# Altium schematic symbol library Schematics.SchLib: 130 symbols
Pins are listed as number, name and electrical type; pins without a type are passive.

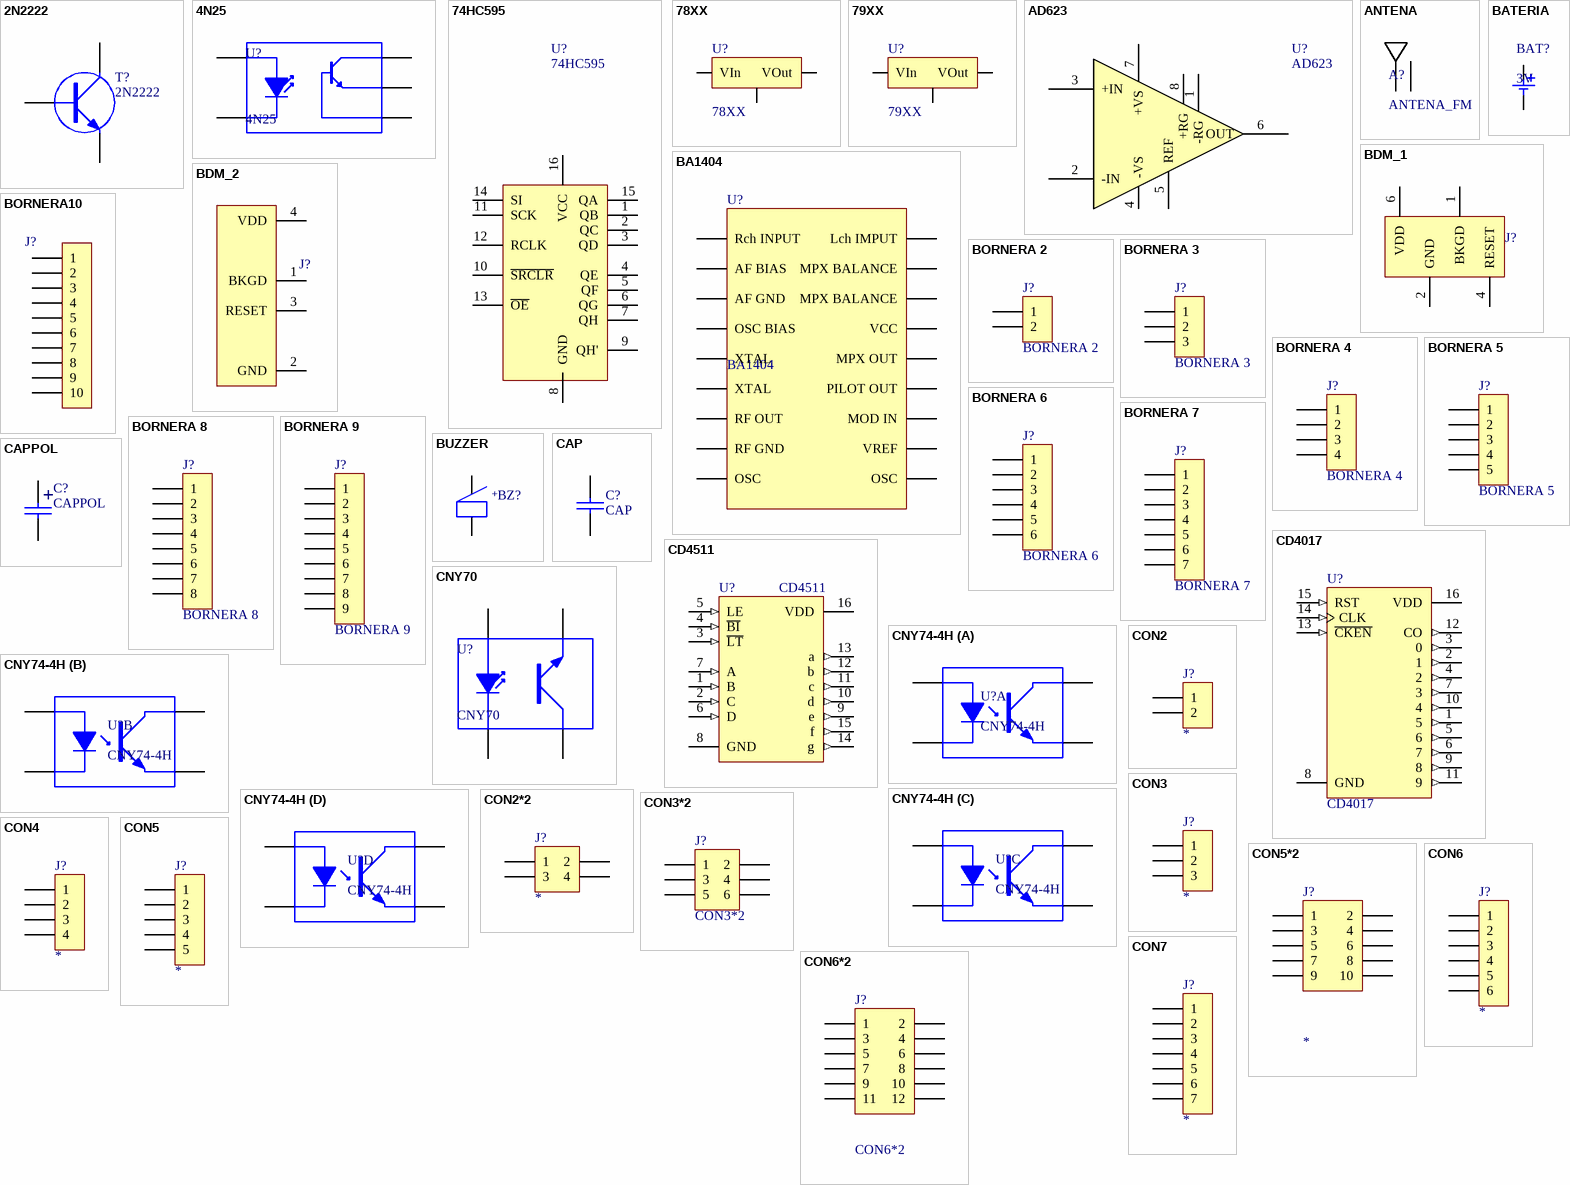
[diagram p0: symbols 2N2222 to CON7]

## 2N2222
designator T?
footprint TO92
footprint TO18
pins: 1 B, 2 E, 3 C

## 4N25
designator U?
footprint DIP6
pins: 1 A, 2 K, 4 E, 5 C, 6 B

## 74HC595
designator U?
footprint DIP16
footprint SOIC16N
pins: 1 QB, 2 QC, 3 QD, 4 QE, 5 QF, 6 QG, 7 QH, 8 GND, 9 QH', 10 ~{SRCLR}, 11 SCK, 12 RCLK, 13 ~{OE}, 14 SI, 15 QA, 16 VCC

## 78XX
designator U?
REGULDOR POSITIVO
footprint TO-220 H
footprint TO-220 V
footprint TO92
footprint TO-220 H - DISIPADOR
pins: 1 VIn, 2 GND, 3 VOut

## 79XX
designator U?
REGULADOR NEGATIVO
footprint TO-220 H
footprint TO-220 V
footprint TO-220 H - DISIPADOR
footprint TO92
pins: 1 GND, 2 VIn, 3 VOut

## AD623
designator U?
IC AMP INST R-R LP 8DIP
footprint DIP8
footprint SOIC8
pins: 1 -RG, 2 -IN, 3 +IN, 4 -VS, 5 REF, 6 OUT, 7 +VS, 8 +RG

## ANTENA
designator A?, comment ANTENA_FM
footprint ANTENA_FM (Footprint not found)
pins: 1, 2

## BA1404
designator U?
FM STEREO TRANSMITTERS
footprint DIP18
pins: 1 Rch INPUT, 2 AF BIAS, 3 AF GND, 4 OSC BIAS, 5 XTAL, 6 XTAL, 7 RF OUT, 8 RF GND, 9 OSC, 10 OSC, 11 VREF, 12 MOD IN, 13 PILOT OUT, 14 MPX OUT, 15 VCC, 16 MPX BALANCE, 17 MPX BALANCE, 18 Lch IMPUT

## BATERIA
designator BAT?, comment 3V
BATERIA
footprint CR2032 (Footprint not found)
pins: 1, 2

## BDM_1
designator J?, comment BDM  (value not drawn)
TIRA DE PINES 2x3
footprint SIP3*2
pins: 1 BKGD, 2 GND, 4 RESET, 6 VDD

## BDM_2
designator J?  (value not drawn)
footprint SIP4
pins: 1 BKGD, 2 GND, 3 RESET, 4 VDD

## BORNERA10
designator J?  (value not drawn)
footprint BORNERA10
pins: 1, 2, 3, 4, 5, 6, 7, 8, 9, 10

## BORNERA 2
designator J?
footprint BORNERA2 (Bornera con Tornillos 5mm separación)
pins: 1, 2

## BORNERA 3
designator J?
footprint BORNERA3 (Bornera con Tornillos 5mm separación)
pins: 1, 2, 3

## BORNERA 4
designator J?
footprint BORNERA4 (Bornera con Tornillos 5mm separación)
pins: 1, 2, 3, 4

## BORNERA 5
designator J?
footprint BORNERA5 (Bornera con Tornillos 5mm separación)
pins: 1, 2, 3, 4, 5

## BORNERA 6
designator J?
footprint BORNERA6 (Bornera con Tornillos 5mm separación)
pins: 1, 2, 3, 4, 5, 6

## BORNERA 7
designator J?
footprint BORNERA7 (Bornera con Tornillos 5mm separación)
pins: 1, 2, 3, 4, 5, 6, 7

## BORNERA 8
designator J?
footprint BORNERA8 (Bornera con Tornillos 5mm separación)
pins: 1, 2, 3, 4, 5, 6, 7, 8

## BORNERA 9
designator J?
footprint BORNERA9 (Bornera con Tornillos 5mm separación)
pins: 1, 2, 3, 4, 5, 6, 7, 8, 9

## BUZZER
designator BZ?
footprint BUZZER 12MM
pins: 1, 2
text: +

## CAP
designator C?
footprint 0805 (Pasivo 0805)
footprint 1206 (Pasivo 1206)
footprint 0603 (Footprint not found)
footprint CAP200
footprint CAP100
pins: 1, 2

## CAPPOL
designator C?
footprint CAP100RP
footprint CAP200RP
footprint CAP100RP2 (Footprint not found)
footprint CAP200RP2 (Body Diameter 12.5mm)
footprint CAP300RP
pins: 1, 2
text: +

## CD4017
designator U?
Decade Counter/Divider with 10 Decoded Outputs
footprint DIP16
pins: 1 5 (out), 2 1 (out), 3 0 (out), 4 2 (out), 5 6 (out), 6 7 (out), 7 3 (out), 8 GND (power), 9 8 (out), 10 4 (out), 11 9 (out), 12 CO (out), 13 ~{CKEN} (in), 14 CLK (in), 15 RST (in), 16 VDD (power)

## CD4511
designator U?
BCD to 7 SEGMENTOS
footprint DIP16
pins: 1 B (in), 2 C (in), 3 ~{LT} (in), 4 ~{BI} (in), 5 LE (in), 6 D (in), 7 A (in), 8 GND (power), 9 e (out), 10 d (out), 11 c (out), 12 b (out), 13 a (out), 14 g (out), 15 f (out), 16 VDD (power)

## CNY70
designator U?
Reflective Optical Sensor with Transistor Output
footprint CNY70
pins: A, C, E, K

## CNY74-4H
designator U?
footprint DIP16
part A pins: 1 A, 2 K, 15 C, 16 E
part B pins: 3 K, 4 A, 13 E, 14 C
part C pins: 5 A, 6 K, 11 C, 12 E
part D pins: 7 K, 8 A, 9 E, 10 C

## CON2
designator J?
footprint SIP2
footprint SIP2 90
pins: 1, 2

## CON2*2
designator J?
footprint SIP2*2
pins: 1, 2, 3, 4

## CON3
designator J?
footprint SIP3
footprint SIP3 90
pins: 1, 2, 3

## CON3*2
designator J?
footprint SIP3*2 (Footprint not found)
pins: 1, 2, 3, 4, 5, 6

## CON4
designator J?
footprint SIP4
footprint SIP4 90
pins: 1, 2, 3, 4

## CON5
designator J?
footprint SIP5
footprint SIP5 90
pins: 1, 2, 3, 4, 5

## CON5*2
designator J?
footprint SIP5*2
pins: 1, 2, 3, 4, 5, 6, 7, 8, 9, 10

## CON6
designator J?
footprint SIP6
footprint SIP6 90
pins: 1, 2, 3, 4, 5, 6

## CON6*2
designator J?
footprint SIP6*2
pins: 1, 2, 3, 4, 5, 6, 7, 8, 9, 10, 11, 12

## CON7
designator J?
footprint SIP7
footprint SIP7 90
pins: 1, 2, 3, 4, 5, 6, 7

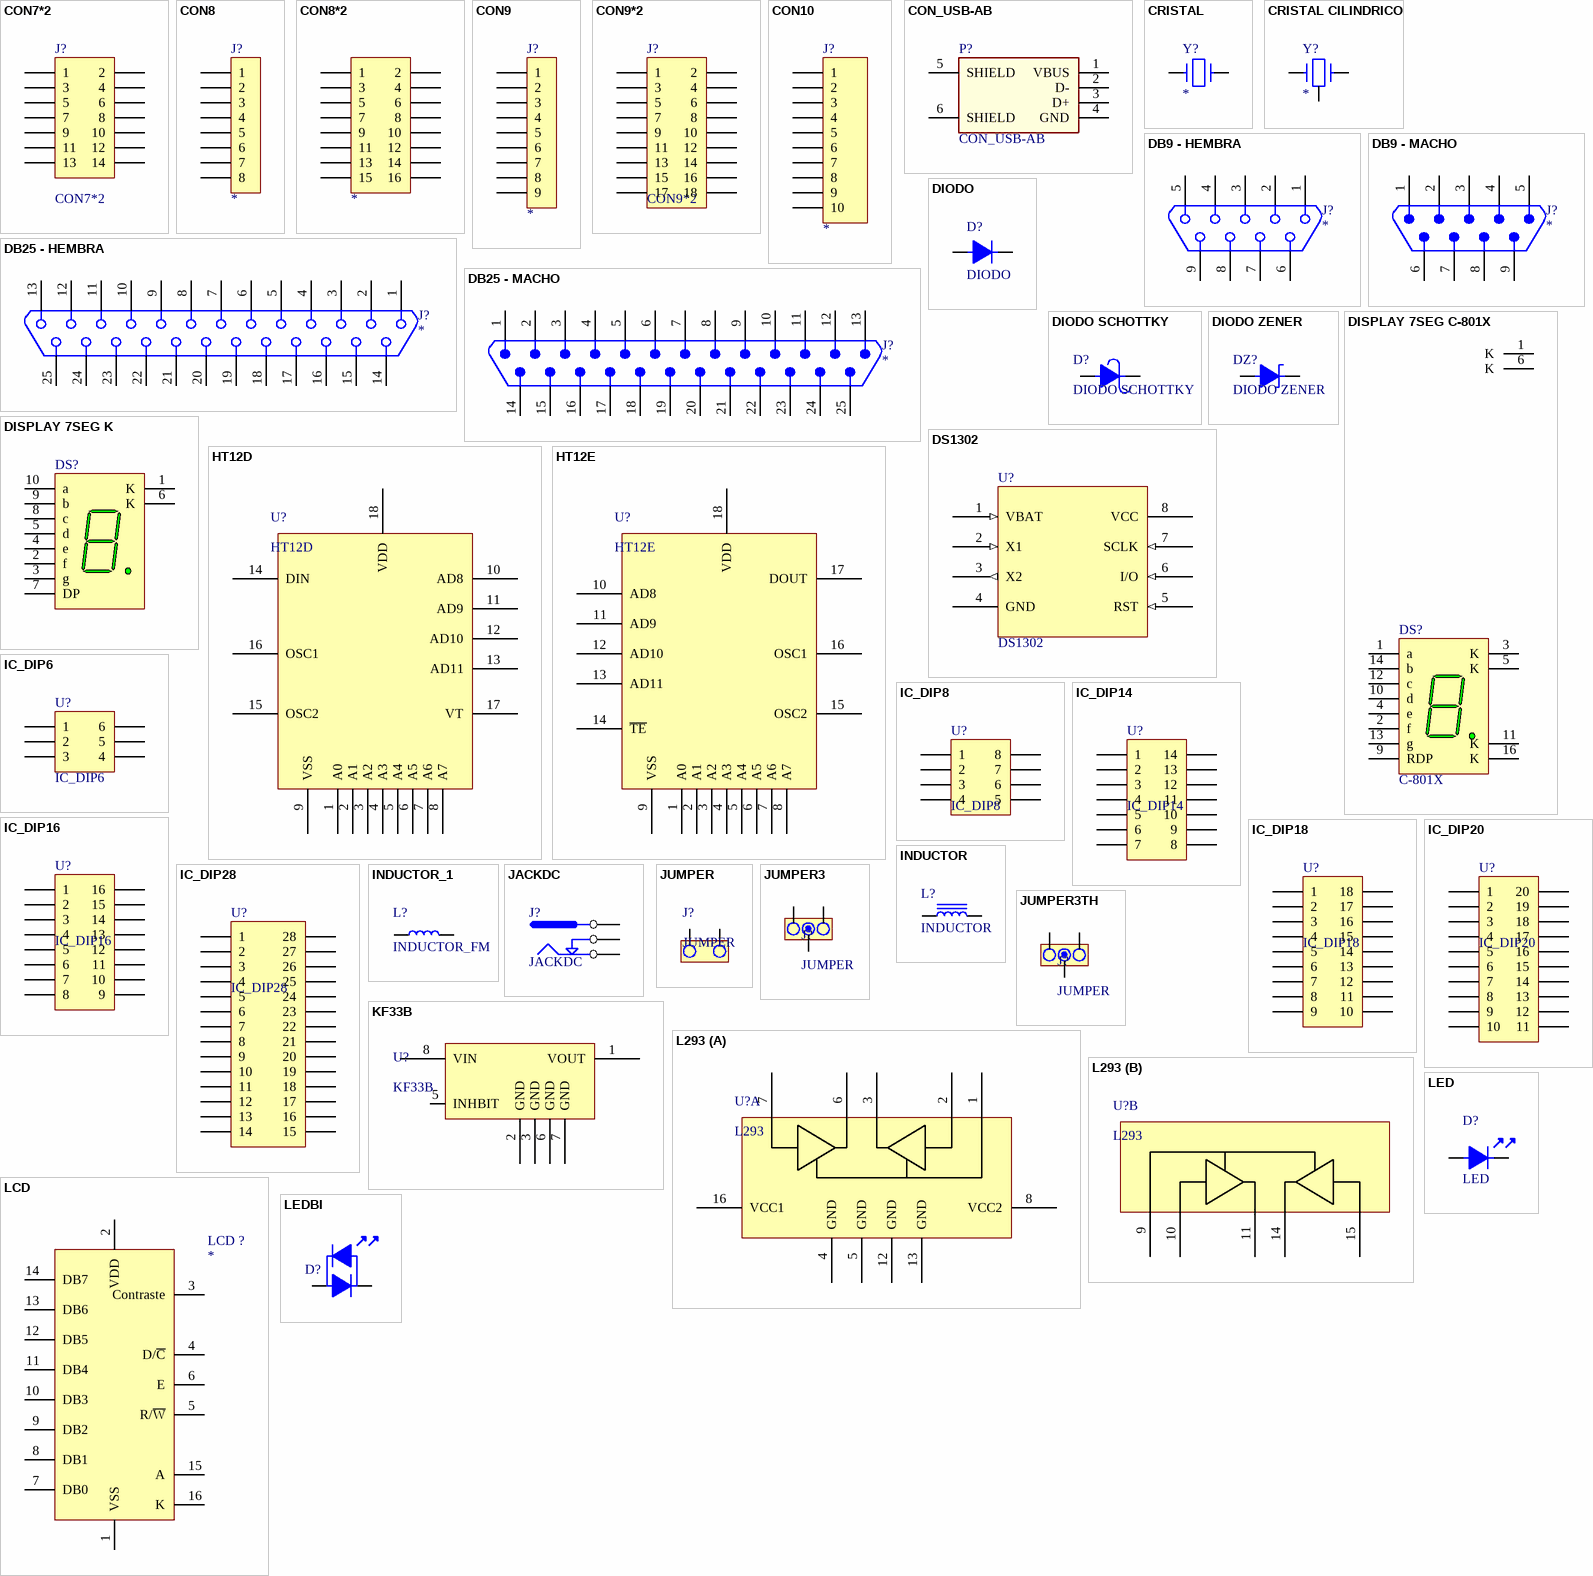
[diagram p1: symbols CON7*2 to LEDBI]

## CON7*2
designator J?
footprint SIP7*2
pins: 1, 2, 3, 4, 5, 6, 7, 8, 9, 10, 11, 12, 13, 14

## CON8
designator J?
footprint SIP8
footprint SIP8 90
pins: 1, 2, 3, 4, 5, 6, 7, 8

## CON8*2
designator ?
footprint SIP8*2
pins: 1, 2, 3, 4, 5, 6, 7, 8, 9, 10, 11, 12, 13, 14, 15, 16

## CON9
designator J?
footprint SIP9
footprint SIP9 90
pins: 1, 2, 3, 4, 5, 6, 7, 8, 9

## CON9*2
designator J?
footprint SIP9*2
pins: 1, 2, 3, 4, 5, 6, 7, 8, 9, 10, 11, 12, 13, 14, 15, 16, 17, 18

## CON10
designator J?
footprint SIP10
footprint SIP10 90
pins: 1, 2, 3, 4, 5, 6, 7, 8, 9, 10

## CON_USB-AB
designator P?
CONN RCPT USB TYPE B R/A PCB; Digikey: 609-1039-ND
footprint USB-BCH
pins: 1 VBUS, 2 D-, 3 D+, 4 GND, 5 SHIELD, 6 SHIELD

## CRISTAL
designator Y?
footprint CRISTAL PERFIL
pins: 1, 2 10

## CRISTAL CILINDRICO
designator Y?
footprint CRISTAL CILINDRICO (Footprint not found)
pins: 1, 2 10, 3 10

## DB9 - HEMBRA
designator J?
footprint DB9H-CI
pins: 1, 2, 3, 4, 5, 6, 7, 8, 9

## DB9 - MACHO
designator J?
footprint DB9M-CI
pins: 1, 2, 3, 4, 5, 6, 7, 8, 9

## DB25 - HEMBRA
designator J?
footprint DB25H-CI
pins: 1, 2, 3, 4, 5, 6, 7, 8, 9, 10, 11, 12, 13, 14, 15, 16, 17, 18, 19, 20, 21, 22, 23, 24, 25

## DB25 - MACHO
designator J?
footprint DB25M-CI
pins: 1, 2, 3, 4, 5, 6, 7, 8, 9, 10, 11, 12, 13, 14, 15, 16, 17, 18, 19, 20, 21, 22, 23, 24, 25

## DIODO
designator D?
footprint SMAK
footprint 1206K
footprint DO41
footprint SMBK
footprint SMCK
pins: 1, 2

## DIODO SCHOTTKY
designator D?
footprint SMAK
footprint SMCK
footprint DO41
footprint SMBK
pins: 1, 2

## DIODO ZENER
designator DZ?
footprint SOT23
footprint DO41
pins: 1, 2

## DISPLAY 7SEG C-801X
designator DS?, comment C-801X
DISPLAY 7 SEGMENTOS CATODO COMUN
footprint C-801X (SINGLE DIGIT DISPLAY PARA LIGTH)
pins: 1 a "Anode", 1 K "Cathode", 2 f "Anode", 3 K "Cathode", 4 e "Anode", 5 K "Cathode", 6 K "Cathode", 9 RDP "Anode", 10 d "Anode", 11 K "Cathode", 12 c "Anode", 13 g "Anode", 14 b "Anode", 16 K "Cathode"

## DISPLAY 7SEG K
designator DS?
Display 7 Segmentos Catodo Común
footprint DISPLAY_LED_0.3" (TOS-3104AG-B)
pins: 1 K "Cathode", 2 f "Anode", 3 g "Anode", 4 e "Anode", 5 d "Anode", 6 K "Cathode", 7 DP "Anode", 8 c "Anode", 9 b "Anode", 10 a "Anode"

## DS1302
designator U?
IC TIMEKEEPER T-CHARGE 8-DIP
footprint DIP8
footprint SO8
pins: 1 VBAT (in), 2 X1 (in), 3 X2 (out), 4 GND (power), 5 RST (in), 6 I/O (in), 7 SCLK (in), 8 VCC (power)

## HT12D
designator U?
footprint DIP18
pins: 1 A0, 2 A1, 3 A2, 4 A3, 5 A4, 6 A5, 7 A6, 8 A7, 9 VSS, 10 AD8, 11 AD9, 12 AD10, 13 AD11, 14 DIN, 15 OSC2, 16 OSC1, 17 VT, 18 VDD

## HT12E
designator U?
2^12  Series of Encoders
footprint DIP18
pins: 1 A0, 2 A1, 3 A2, 4 A3, 5 A4, 6 A5, 7 A6, 8 A7, 9 VSS, 10 AD8, 11 AD9, 12 AD10, 13 AD11, 14 ~{TE}, 15 OSC2, 16 OSC1, 17 DOUT, 18 VDD

## IC_DIP6
designator U?
footprint DIP6
pins: 1, 2, 3, 4, 5, 6

## IC_DIP8
designator U?
footprint DIP8
pins: 1, 2, 3, 4, 5, 6, 7, 8

## IC_DIP14
designator U?
footprint DIP14
pins: 1, 2, 3, 4, 5, 6, 7, 8, 9, 10, 11, 12, 13, 14

## IC_DIP16
designator U?
footprint DIP16
pins: 1, 2, 3, 4, 5, 6, 7, 8, 9, 10, 11, 12, 13, 14, 15, 16

## IC_DIP18
designator U?
footprint DIP18
pins: 1, 2, 3, 4, 5, 6, 7, 8, 9, 10, 11, 12, 13, 14, 15, 16, 17, 18

## IC_DIP20
designator U?
footprint DIP20
pins: 1, 2, 3, 4, 5, 6, 7, 8, 9, 10, 11, 12, 13, 14, 15, 16, 17, 18, 19, 20

## IC_DIP28
designator U?
footprint DIP28
pins: 1, 2, 3, 4, 5, 6, 7, 8, 9, 10, 11, 12, 13, 14, 15, 16, 17, 18, 19, 20, 21, 22, 23, 24, 25, 26, 27, 28

## INDUCTOR
designator L?
footprint WE-PD SERIES (POWER-CHOKE WE-PD)
footprint DO3316
footprint L_IHLP (Footprint para IHLP2525CZER3R3M11)
footprint SRR1210
pins: 1, 2

## INDUCTOR_1
designator L?, comment INDUCTOR_FM
footprint INDUCTOR_FM
pins: 1, 2

## JACKDC
designator J?
footprint JACKDC
pins: 1, 2, 3

## JUMPER
designator J?
footprint 0805 (Pasivo 0805)
footprint JUMPER2
pins: 1, 2

## JUMPER3
designator J?, comment JUMPER
footprint JUMPER3
pins: 1, 2, 3

## JUMPER3TH
designator J?, comment JUMPER
TIRA DE PINES 1x3
footprint JUMPER3TH
pins: 1, 2, 3

## KF33B
designator U?
footprint SO8 (Footprint not found)
pins: 1 VOUT, 2 GND, 3 GND, 5 INHBIT, 6 GND, 7 GND, 8 VIN

## L293
designator U?
QUADRUPLE HALF-H DRIVERS
footprint DIP16
part A pins: 1 1,2EN (power), 2 1A (power), 3 1Y (power), 4 GND (power), 5 GND (power), 6 2Y (power), 7 2A (power), 8 VCC2 (power), 12 GND (power), 13 GND (power), 16 VCC1 (power)
part B pins: 9 3,4EN (power), 10 3A (power), 11 3Y (power), 14 4Y (power), 15 4A (power)

## LCD
designator LCD ?
footprint IDC16
pins: 1 VSS, 2 VDD, 3 Contraste, 4 D/~{C}, 5 R/~{W}, 6 E, 7 DB0, 8 DB1, 9 DB2, 10 DB3, 11 DB4, 12 DB5, 13 DB6, 14 DB7, 15 A, 16 K

## LED
designator D?
footprint 0805 (Chip Resistor, 2-Leads, Body 0,8"x0,5" - 2,0x1,3mm, IPC High Density)
footprint LED3
footprint LED5
pins: 1, 2

## LEDBI
designator D?  (value not drawn)
Led BiColor 3mm - 2 Pines
footprint LED3
pins: 1, 2

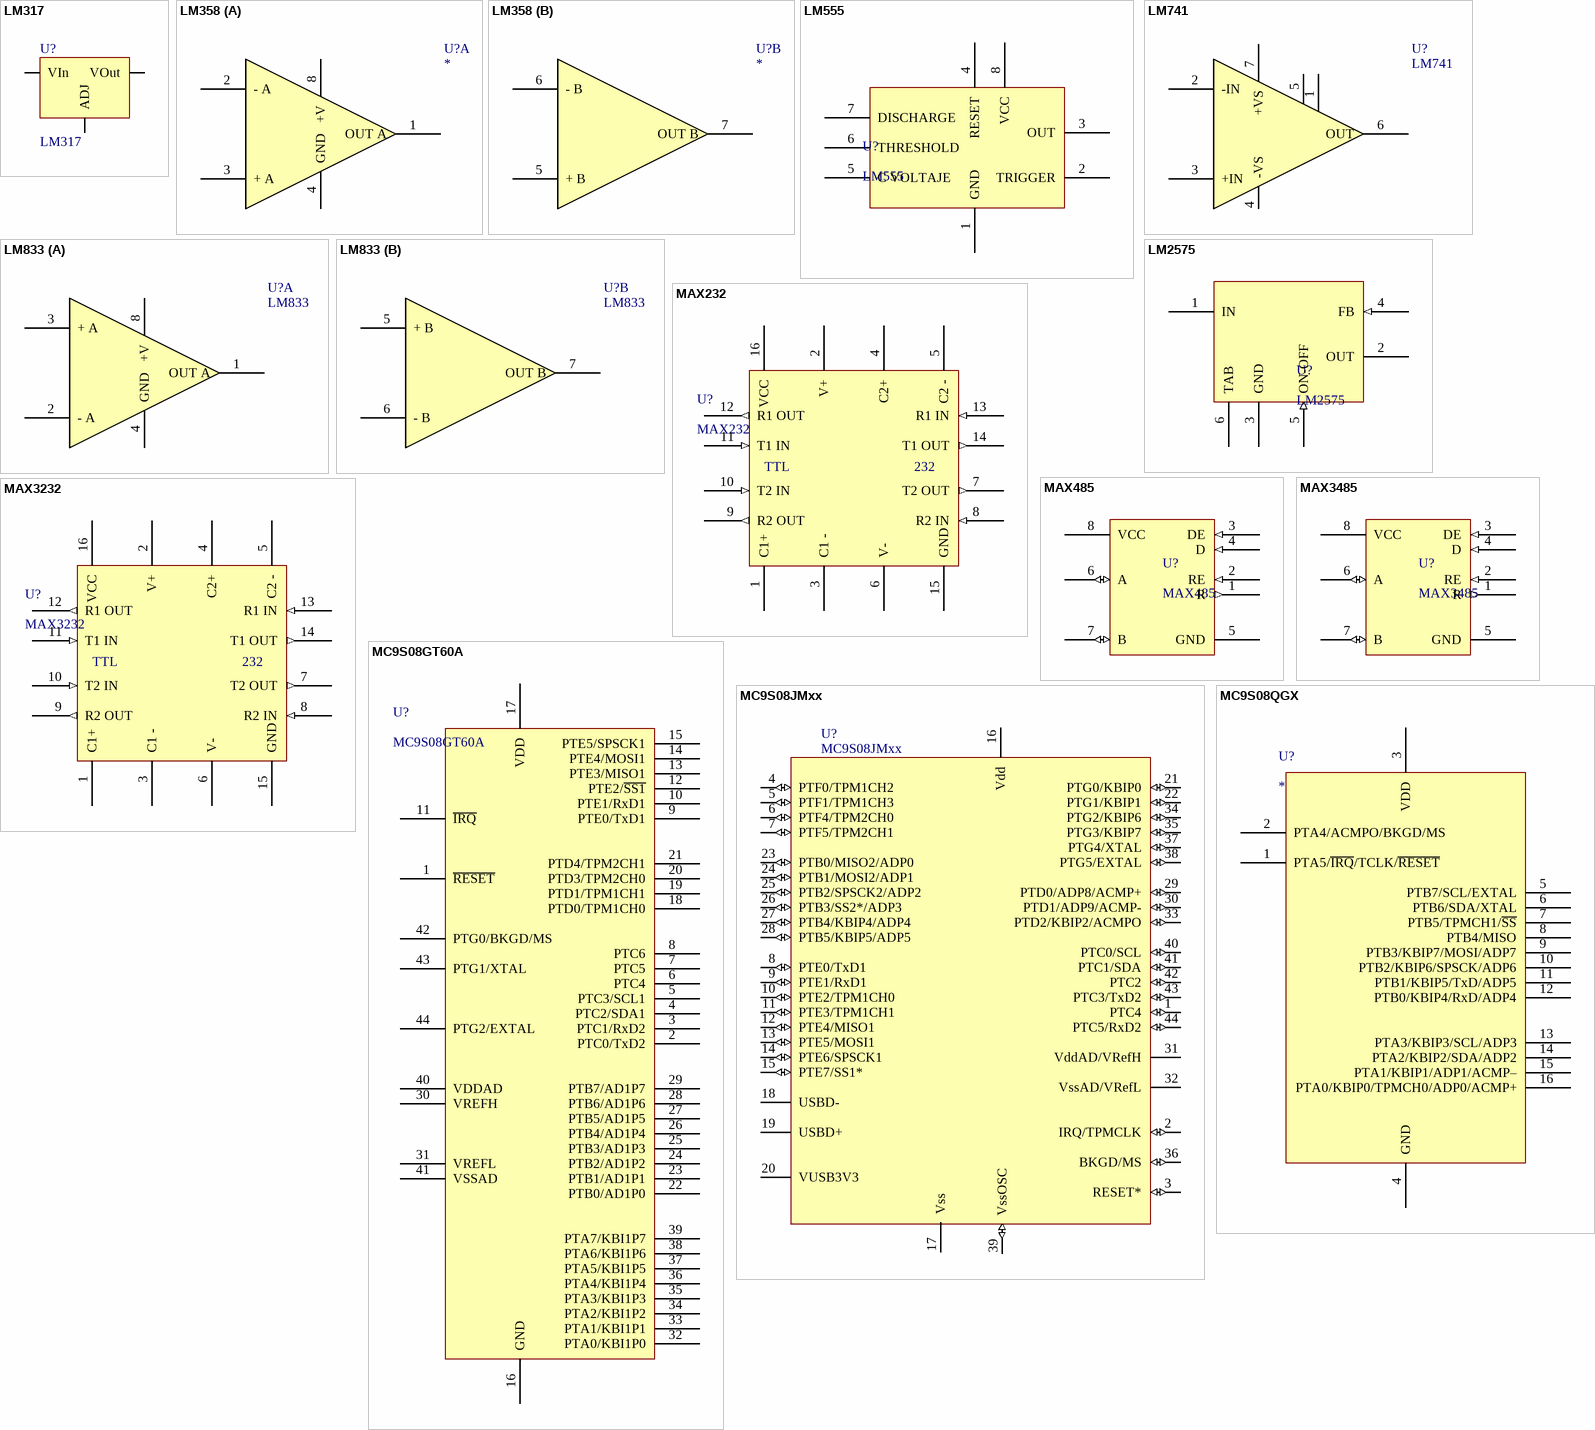
[diagram p2: symbols LM317 to MC9S08QGX]

## LM317
designator U?
IC REG ADJ 1.5A 3 TERM TO-220
footprint TO-220 H
footprint TO-220 V
footprint TO-220 H - DISIPADOR
pins: 1 ADJ, 2 VOut, 3 VIn

## LM358
designator U?
footprint DIP8
part A pins: 1 OUT A, 2 - A, 3 + A, 4 GND, 8 +V
part B pins: 5 + B, 6 - B, 7 OUT B

## LM555
designator U?
Timer
footprint SO8 (Footprint not found)
footprint DIP8
pins: 1 GND, 2 TRIGGER, 3 OUT, 4 RESET, 5 C VOLTAJE, 6 THRESHOLD, 7 DISCHARGE, 8 VCC

## LM741
designator U?
LM741 Operational Amplifier
footprint DIP8
pins: 1 -RG, 2 -IN, 3 +IN, 4 -VS, 5 +RG, 6 OUT, 7 +VS

## LM833
designator U?
Dual Audio Operational Amplifier
footprint DIP8
part A pins: 1 OUT A, 2 - A, 3 + A, 4 GND, 8 +V
part B pins: 5 + B, 6 - B, 7 OUT B

## LM2575
designator U?
footprint TO263 (Footprint not found)
footprint TO-220_5 H
pins: 1 IN (power), 2 OUT (power), 3 GND (power), 4 FB (in), 5 ON-OFF (in), 6 TAB (power)

## MAX232
designator U?
IC TXRX RS232 1MBPS LP
footprint SOIC16N
footprint DIP16
pins: 1 C1+, 2 V+ (power), 3 C1 -, 4 C2+, 5 C2 -, 6 V- (power), 7 T2 OUT (out), 8 R2 IN (in), 9 R2 OUT (out), 10 T2 IN (in), 11 T1 IN (in), 12 R1 OUT (out), 13 R1 IN (in), 14 T1 OUT (out), 15 GND (power), 16 VCC (power)
text: TTL; 232

## MAX485
designator U?
IC TXRX 5V RS485/422 8 SOIC
footprint SO8 (Footprint not found)
pins: 1 R (out), 2 RE (in), 3 DE (in), 4 D (in), 5 GND (power), 6 A (io), 7 B (io), 8 VCC (power)

## MAX3232
designator U?
IC TXRX RS232 1MBPS LP 16-SOIC (3 V ~ 5.5 V); Part Number: MAX3232CSE
footprint SOIC16N
footprint DIP16
pins: 1 C1+, 2 V+ (power), 3 C1 -, 4 C2+, 5 C2 -, 6 V- (power), 7 T2 OUT (out), 8 R2 IN (in), 9 R2 OUT (out), 10 T2 IN (in), 11 T1 IN (in), 12 R1 OUT (out), 13 R1 IN (in), 14 T1 OUT (out), 15 GND (power), 16 VCC (power)
text: TTL; 232

## MAX3485
designator U?
IC TXRX 3.3V RS485/422 8 SOIC
footprint SO8 (Footprint not found)
pins: 1 R (out), 2 RE (in), 3 DE (in), 4 D (in), 5 GND (power), 6 A (io), 7 B (io), 8 VCC (power)

## MC9S08GT60A
designator U?
IC MCU 60K FLASH 4K RAM 44-QFP
footprint QFP44
pins: 1 ~{RESET}, 2 PTC0/TxD2, 3 PTC1/RxD2, 4 PTC2/SDA1, 5 PTC3/SCL1, 6 PTC4, 7 PTC5, 8 PTC6, 9 PTE0/TxD1, 10 PTE1/RxD1, 11 ~{IRQ}, 12 PTE2/~{SS1}, 13 PTE3/MISO1, 14 PTE4/MOSI1, 15 PTE5/SPSCK1, 16 GND, 17 VDD, 18 PTD0/TPM1CH0, 19 PTD1/TPM1CH1, 20 PTD3/TPM2CH0, 21 PTD4/TPM2CH1, 22 PTB0/AD1P0, 23 PTB1/AD1P1, 24 PTB2/AD1P2, 25 PTB3/AD1P3, 26 PTB4/AD1P4, 27 PTB5/AD1P5, 28 PTB6/AD1P6, 29 PTB7/AD1P7, 30 VREFH, 31 VREFL, 32 PTA0/KBI1P0, 33 PTA1/KBI1P1, 34 PTA2/KBI1P2, 35 PTA3/KBI1P3, 36 PTA4/KBI1P4, 37 PTA5/KBI1P5, 38 PTA6/KBI1P6, 39 PTA7/KBI1P7, 40 VDDAD, 41 VSSAD, 42 PTG0/BKGD/MS, 43 PTG1/XTAL, 44 PTG2/EXTAL

## MC9S08JMxx
designator U?
IC MCU 8BIT 60K FLASH 44-LQFP; Digikey: MC9S08JM60CLD-ND
footprint QFP44
pins: 1 PTC4 (io), 2 IRQ/TPMCLK (io), 3 RESET* (io), 4 PTF0/TPM1CH2 (io), 5 PTF1/TPM1CH3 (io), 6 PTF4/TPM2CH0 (io), 7 PTF5/TPM2CH1 (io), 8 PTE0/TxD1 (io), 9 PTE1/RxD1 (io), 10 PTE2/TPM1CH0 (io), 11 PTE3/TPM1CH1 (io), 12 PTE4/MISO1 (io), 13 PTE5/MOSI1 (io), 14 PTE6/SPSCK1 (io), 15 PTE7/SS1* (io), 16 Vdd (power), 17 Vss (power), 18 USBD- (power), 19 USBD+ (power), 20 VUSB3V3 (power), 21 PTG0/KBIP0 (io), 22 PTG1/KBIP1 (io), 23 PTB0/MISO2/ADP0 (io), 24 PTB1/MOSI2/ADP1 (io), 25 PTB2/SPSCK2/ADP2 (io), 26 PTB3/SS2*/ADP3 (io), 27 PTB4/KBIP4/ADP4 (io), 28 PTB5/KBIP5/ADP5 (io), 29 PTD0/ADP8/ACMP+ (io), 30 PTD1/ADP9/ACMP- (io), 31 VddAD/VRefH (power), 32 VssAD/VRefL (power), 33 PTD2/KBIP2/ACMPO (io), 34 PTG2/KBIP6 (io), 35 PTG3/KBIP7 (io), 36 BKGD/MS (io), 37 PTG4/XTAL (io), 38 PTG5/EXTAL (io), 39 VssOSC (io), 40 PTC0/SCL (io), 41 PTC1/SDA (io), 42 PTC2 (io), 43 PTC3/TxD2 (io), 44 PTC5/RxD2 (io)

## MC9S08QGX
designator U?
footprint TSSOP16
footprint DIP16 (Footprint not found)
pins: 1 PTA5/~{IRQ}/TCLK/~{RESET}, 2 PTA4/ACMPO/BKGD/MS, 3 VDD, 4 GND, 5 PTB7/SCL/EXTAL, 6 PTB6/SDA/XTAL, 7 PTB5/TPMCH1/~{SS}, 8 PTB4/MISO, 9 PTB3/KBIP7/MOSI/ADP7, 10 PTB2/KBIP6/SPSCK/ADP6, 11 PTB1/KBIP5/TxD/ADP5, 12 PTB0/KBIP4/RxD/ADP4, 13 PTA3/KBIP3/SCL/ADP3, 14 PTA2/KBIP2/SDA/ADP2, 15 PTA1/KBIP1/ADP1/ACMP–, 16 PTA0/KBIP0/TPMCH0/ADP0/ACMP+

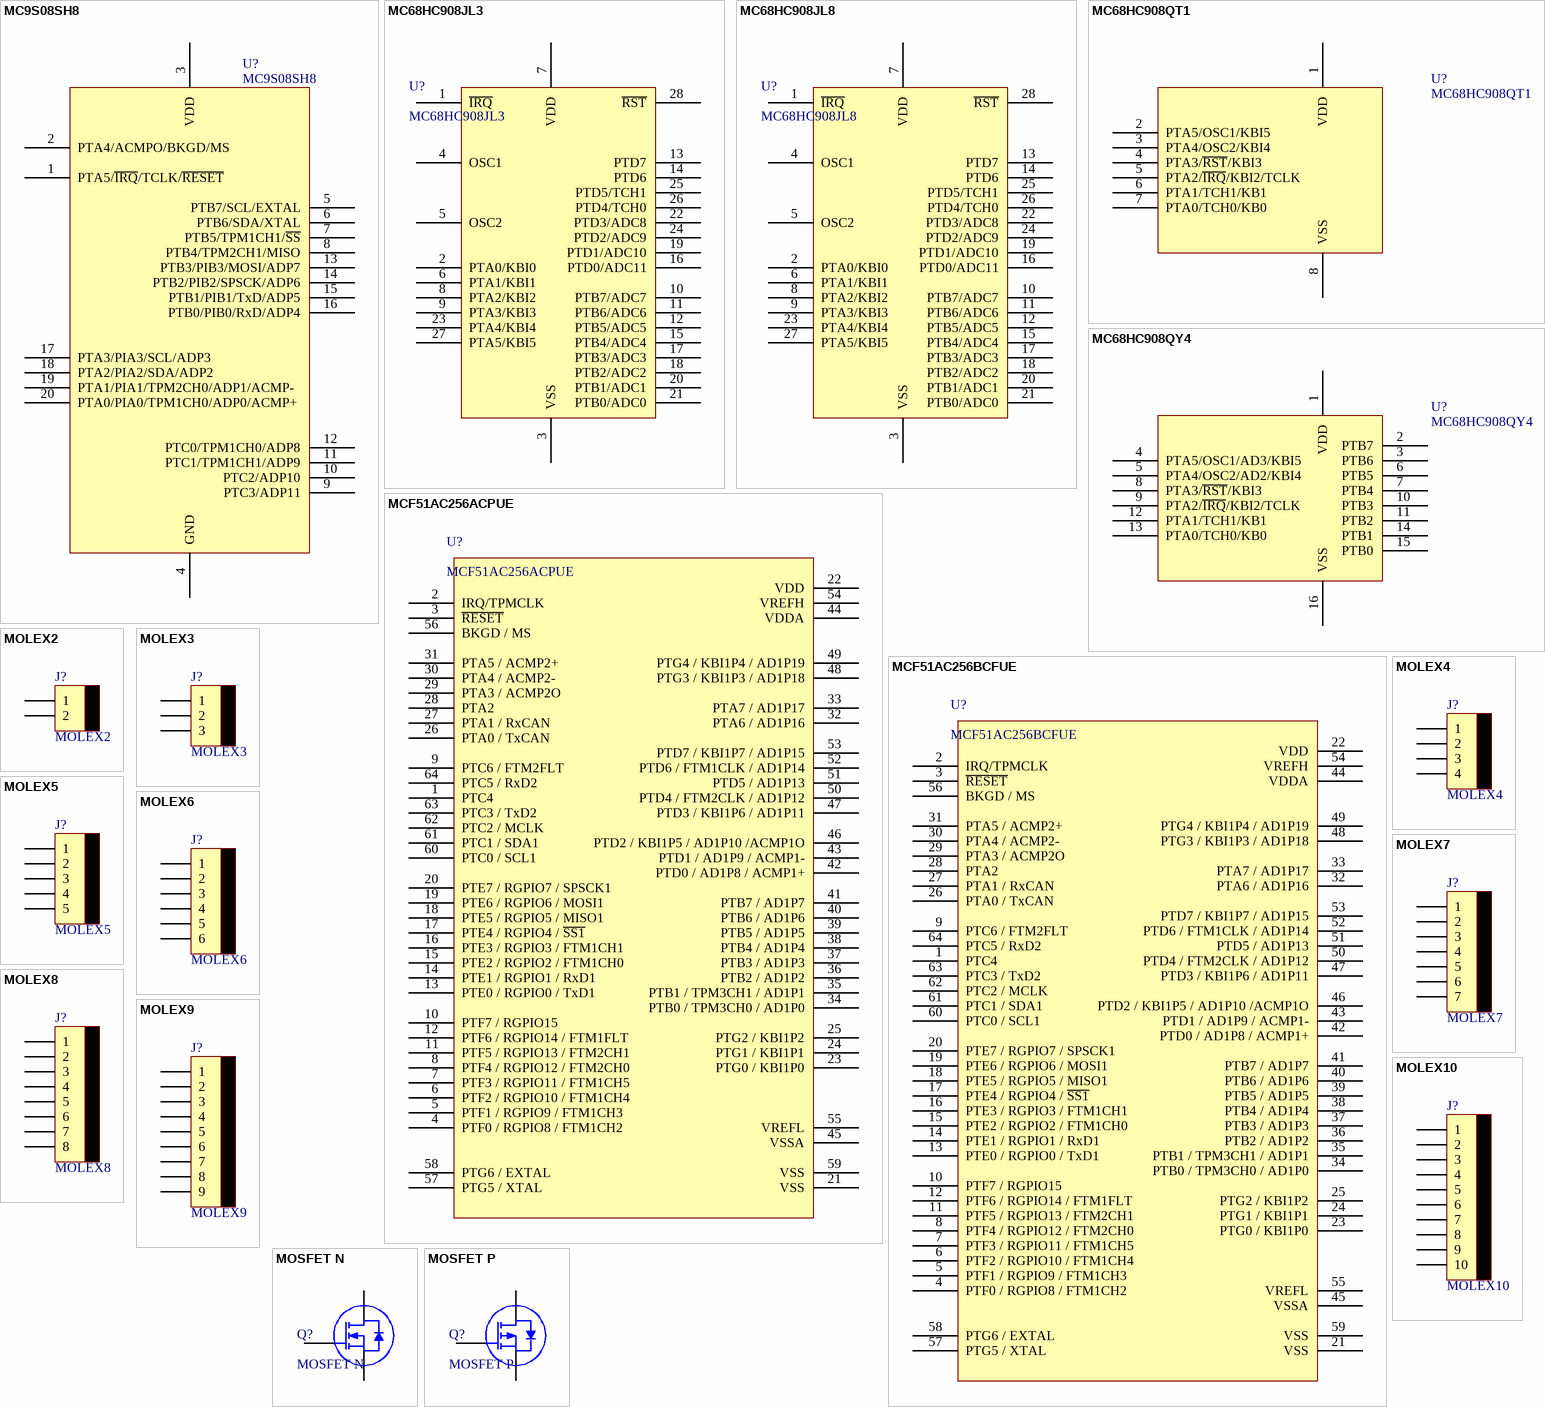
[diagram p3: symbols MC9S08SH8 to MOSFET P]

## MC9S08SH8
designator U?
IC MCU 8BIT 8K FLASH 20-DIP
footprint DIP20 (Footprint not found)
pins: 1 PTA5/~{IRQ}/TCLK/~{RESET}, 2 PTA4/ACMPO/BKGD/MS, 3 VDD, 4 GND, 5 PTB7/SCL/EXTAL, 6 PTB6/SDA/XTAL, 7 PTB5/TPM1CH1/~{SS}, 8 PTB4/TPM2CH1/MISO, 9 PTC3/ADP11, 10 PTC2/ADP10, 11 PTC1/TPM1CH1/ADP9, 12 PTC0/TPM1CH0/ADP8, 13 PTB3/PIB3/MOSI/ADP7, 14 PTB2/PIB2/SPSCK/ADP6, 15 PTB1/PIB1/TxD/ADP5, 16 PTB0/PIB0/RxD/ADP4, 17 PTA3/PIA3/SCL/ADP3, 18 PTA2/PIA2/SDA/ADP2, 19 PTA1/PIA1/TPM2CH0/ADP1/ACMP-, 20 PTA0/PIA0/TPM1CH0/ADP0/ACMP+

## MC68HC908JL3
designator U?
IC MCU 8MHZ 4K FLASH 28-DIP
footprint DIP28
pins: 1 ~{IRQ}, 2 PTA0/KBI0, 3 VSS, 4 OSC1, 5 OSC2, 6 PTA1/KBI1, 7 VDD, 8 PTA2/KBI2, 9 PTA3/KBI3, 10 PTB7/ADC7, 11 PTB6/ADC6, 12 PTB5/ADC5, 13 PTD7, 14 PTD6, 15 PTB4/ADC4, 16 PTD0/ADC11, 17 PTB3/ADC3, 18 PTB2/ADC2, 19 PTD1/ADC10, 20 PTB1/ADC1, 21 PTB0/ADC0, 22 PTD3/ADC8, 23 PTA4/KBI4, 24 PTD2/ADC9, 25 PTD5/TCH1, 26 PTD4/TCH0, 27 PTA5/KBI5, 28 ~{RST}

## MC68HC908JL8
designator U?
IC MCU 8K FLASH 8MHZ 28-DIP
footprint DIP28
pins: 1 ~{IRQ}, 2 PTA0/KBI0, 3 VSS, 4 OSC1, 5 OSC2, 6 PTA1/KBI1, 7 VDD, 8 PTA2/KBI2, 9 PTA3/KBI3, 10 PTB7/ADC7, 11 PTB6/ADC6, 12 PTB5/ADC5, 13 PTD7, 14 PTD6, 15 PTB4/ADC4, 16 PTD0/ADC11, 17 PTB3/ADC3, 18 PTB2/ADC2, 19 PTD1/ADC10, 20 PTB1/ADC1, 21 PTB0/ADC0, 22 PTD3/ADC8, 23 PTA4/KBI4, 24 PTD2/ADC9, 25 PTD5/TCH1, 26 PTD4/TCH0, 27 PTA5/KBI5, 28 ~{RST}

## MC68HC908QT1
designator U?
IC MCU 1.5K FLASH 8-DIP
footprint DIP8 (Footprint not found)
pins: 1 VDD, 2 PTA5/OSC1/KBI5, 3 PTA4/OSC2/KBI4, 4 PTA3/~{RST}/KBI3, 5 PTA2/~{IRQ}/KBI2/TCLK, 6 PTA1/TCH1/KB1, 7 PTA0/TCH0/KB0, 8 VSS

## MC68HC908QY4
designator U?
IC MCU 4K FLASH 8MHZ 16-DIP
footprint DIP16
pins: 1 VDD, 2 PTB7, 3 PTB6, 4 PTA5/OSC1/AD3/KBI5, 5 PTA4/OSC2/AD2/KBI4, 6 PTB5, 7 PTB4, 8 PTA3/~{RST}/KBI3, 9 PTA2/~{IRQ}/KBI2/TCLK, 10 PTB3, 11 PTB2, 12 PTA1/TCH1/KB1, 13 PTA0/TCH0/KB0, 14 PTB1, 15 PTB0, 16 VSS

## MCF51AC256ACPUE
designator U?
MCU 32BIT 256K FLASH CAN 64-LQFP
footprint LQFP64
pins: 1 PTC4, 2 IRQ/TPMCLK, 3 ~{RESET}, 4 PTF0 / RGPIO8 / FTM1CH2, 5 PTF1 / RGPIO9 / FTM1CH3, 6 PTF2 / RGPIO10 / FTM1CH4, 7 PTF3 / RGPIO11 / FTM1CH5, 8 PTF4 / RGPIO12 / FTM2CH0, 9 PTC6 / FTM2FLT, 10 PTF7 / RGPIO15, 11 PTF5 / RGPIO13 / FTM2CH1, 12 PTF6 / RGPIO14 / FTM1FLT, 13 PTE0 / RGPIO0 / TxD1, 14 PTE1 / RGPIO1 / RxD1, 15 PTE2 / RGPIO2 / FTM1CH0, 16 PTE3 / RGPIO3 / FTM1CH1, 17 PTE4 / RGPIO4 / ~{SS1}, 18 PTE5 / RGPIO5 / MISO1, 19 PTE6 / RGPIO6 / MOSI1, 20 PTE7 / RGPIO7 / SPSCK1, 21 VSS, 22 VDD, 23 PTG0 / KBI1P0, 24 PTG1 / KBI1P1, 25 PTG2 / KBI1P2, 26 PTA0 / TxCAN, 27 PTA1 / RxCAN, 28 PTA2, 29 PTA3 / ACMP2O, 30 PTA4 / ACMP2-, 31 PTA5 / ACMP2+, 32 PTA6 / AD1P16, 33 PTA7 / AD1P17, 34 PTB0 / TPM3CH0 / AD1P0, 35 PTB1 / TPM3CH1 / AD1P1, 36 PTB2 / AD1P2, 37 PTB3 / AD1P3, 38 PTB4 / AD1P4, 39 PTB5 / AD1P5, 40 PTB6 / AD1P6, 41 PTB7 / AD1P7, 42 PTD0 / AD1P8 / ACMP1+, 43 PTD1 / AD1P9 / ACMP1-, 44 VDDA, 45 VSSA, 46 PTD2 / KBI1P5 / AD1P10 /ACMP1O, 47 PTD3 / KBI1P6 / AD1P11, 48 PTG3 / KBI1P3 / AD1P18, 49 PTG4 / KBI1P4 / AD1P19, 50 PTD4 / FTM2CLK / AD1P12, 51 PTD5 / AD1P13, 52 PTD6 / FTM1CLK / AD1P14, 53 PTD7 / KBI1P7 / AD1P15, 54 VREFH, 55 VREFL, 56 BKGD / MS, 57 PTG5 / XTAL, 58 PTG6 / EXTAL, 59 VSS, 60 PTC0 / SCL1, 61 PTC1 / SDA1, 62 PTC2 / MCLK, 63 PTC3 / TxD2, 64 PTC5 / RxD2

## MCF51AC256BCFUE
designator U?
MCU 32BIT 256K FLASH CAN 64-QFP
footprint QFP64
pins: 1 PTC4, 2 IRQ/TPMCLK, 3 ~{RESET}, 4 PTF0 / RGPIO8 / FTM1CH2, 5 PTF1 / RGPIO9 / FTM1CH3, 6 PTF2 / RGPIO10 / FTM1CH4, 7 PTF3 / RGPIO11 / FTM1CH5, 8 PTF4 / RGPIO12 / FTM2CH0, 9 PTC6 / FTM2FLT, 10 PTF7 / RGPIO15, 11 PTF5 / RGPIO13 / FTM2CH1, 12 PTF6 / RGPIO14 / FTM1FLT, 13 PTE0 / RGPIO0 / TxD1, 14 PTE1 / RGPIO1 / RxD1, 15 PTE2 / RGPIO2 / FTM1CH0, 16 PTE3 / RGPIO3 / FTM1CH1, 17 PTE4 / RGPIO4 / ~{SS1}, 18 PTE5 / RGPIO5 / MISO1, 19 PTE6 / RGPIO6 / MOSI1, 20 PTE7 / RGPIO7 / SPSCK1, 21 VSS, 22 VDD, 23 PTG0 / KBI1P0, 24 PTG1 / KBI1P1, 25 PTG2 / KBI1P2, 26 PTA0 / TxCAN, 27 PTA1 / RxCAN, 28 PTA2, 29 PTA3 / ACMP2O, 30 PTA4 / ACMP2-, 31 PTA5 / ACMP2+, 32 PTA6 / AD1P16, 33 PTA7 / AD1P17, 34 PTB0 / TPM3CH0 / AD1P0, 35 PTB1 / TPM3CH1 / AD1P1, 36 PTB2 / AD1P2, 37 PTB3 / AD1P3, 38 PTB4 / AD1P4, 39 PTB5 / AD1P5, 40 PTB6 / AD1P6, 41 PTB7 / AD1P7, 42 PTD0 / AD1P8 / ACMP1+, 43 PTD1 / AD1P9 / ACMP1-, 44 VDDA, 45 VSSA, 46 PTD2 / KBI1P5 / AD1P10 /ACMP1O, 47 PTD3 / KBI1P6 / AD1P11, 48 PTG3 / KBI1P3 / AD1P18, 49 PTG4 / KBI1P4 / AD1P19, 50 PTD4 / FTM2CLK / AD1P12, 51 PTD5 / AD1P13, 52 PTD6 / FTM1CLK / AD1P14, 53 PTD7 / KBI1P7 / AD1P15, 54 VREFH, 55 VREFL, 56 BKGD / MS, 57 PTG5 / XTAL, 58 PTG6 / EXTAL, 59 VSS, 60 PTC0 / SCL1, 61 PTC1 / SDA1, 62 PTC2 / MCLK, 63 PTC3 / TxD2, 64 PTC5 / RxD2

## MOLEX2
designator J?
footprint MOLEX2
pins: 1, 2

## MOLEX3
designator J?
footprint MOLEX3
pins: 1, 2, 3

## MOLEX4
designator J?
footprint MOLEX4
pins: 1, 2, 3, 4

## MOLEX5
designator J?
footprint MOLEX5
pins: 1, 2, 3, 4, 5

## MOLEX6
designator J?
footprint MOLEX6
pins: 1, 2, 3, 4, 5, 6

## MOLEX7
designator J?
footprint MOLEX7
pins: 1, 2, 3, 4, 5, 6, 7

## MOLEX8
designator J?
footprint MOLEX8
pins: 1, 2, 3, 4, 5, 6, 7, 8

## MOLEX9
designator J?
footprint MOLEX9
pins: 1, 2, 3, 4, 5, 6, 7, 8, 9

## MOLEX10
designator J?
footprint MOLEX10
pins: 1, 2, 3, 4, 5, 6, 7, 8, 9, 10

## MOSFET N
designator Q?
footprint SOT23
footprint TO-220 V
pins: 1 G, 2 D, 3 S

## MOSFET P
designator Q?
footprint SOT23
footprint TO-220 V
pins: 1 G, 2 D, 3 S

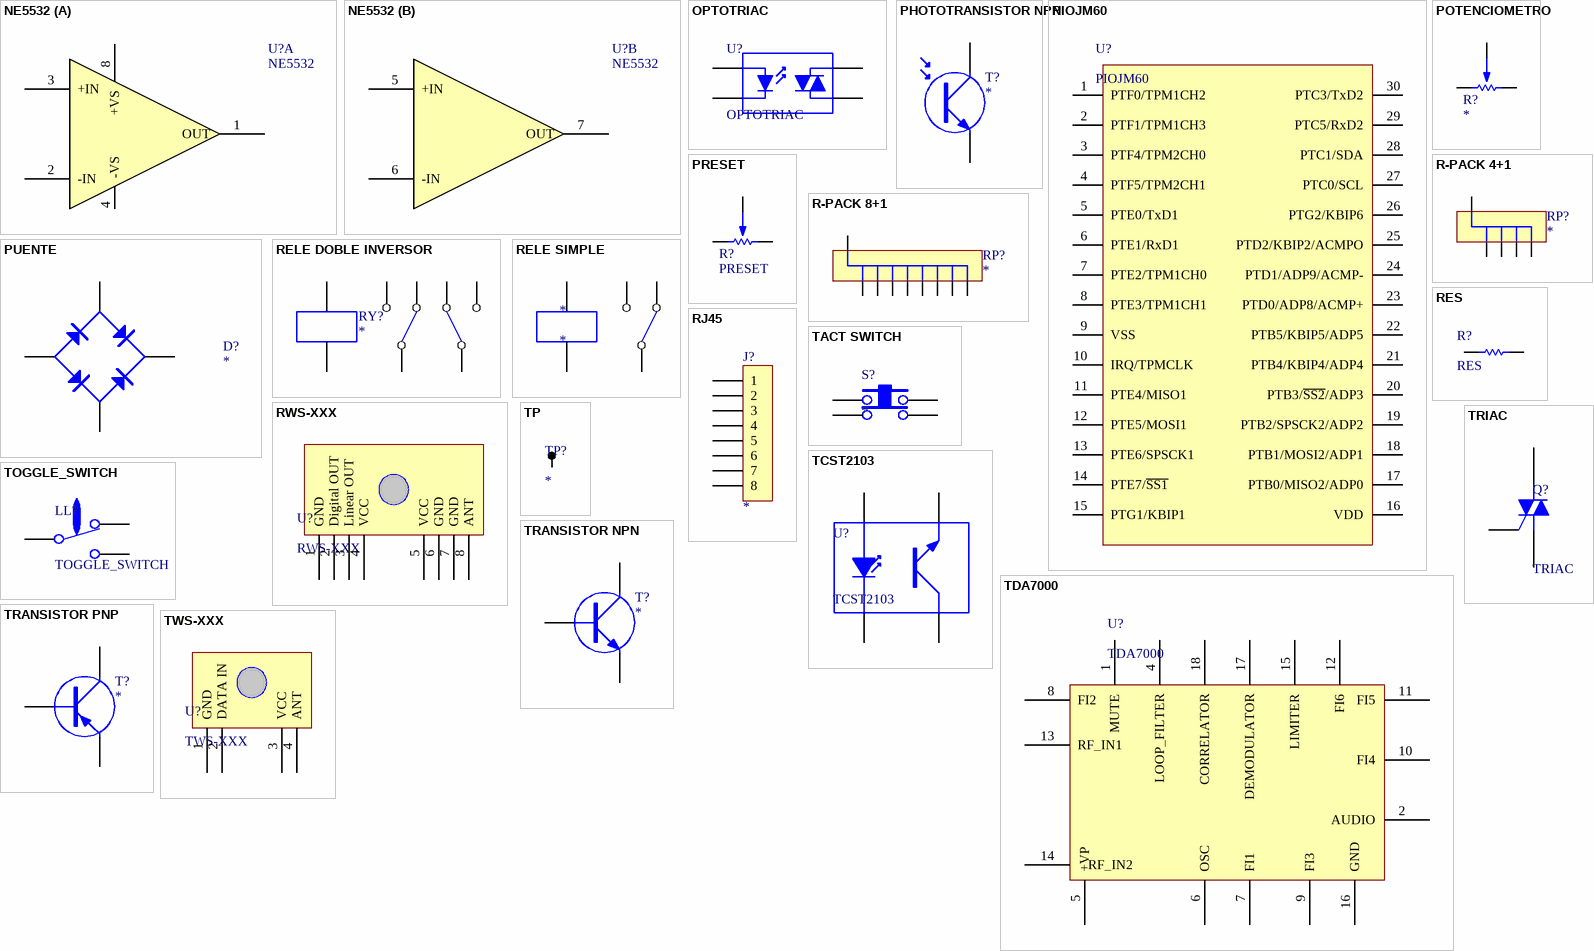
[diagram p4: symbols NE5532 to TWS-XXX]

## NE5532
designator U?
IC OPAMP DUAL LOW NOISE 8-DIP
footprint DIP8
footprint SOIC8
part A pins: 1 OUT, 2 -IN, 3 +IN, 4 -VS, 8 +VS
part B pins: 5 +IN, 6 -IN, 7 OUT

## OPTOTRIAC
designator U?
footprint DIP6
pins: 1 A, 2 K, 4 A2, 6 A1

## PHOTOTRANSISTOR NPN
designator T?
footprint LED5
pins: 1 E, 2 C

## PIOJM60
designator U?
footprint PIOJM60
pins: 1 PTF0/TPM1CH2, 2 PTF1/TPM1CH3, 3 PTF4/TPM2CH0, 4 PTF5/TPM2CH1, 5 PTE0/TxD1, 6 PTE1/RxD1, 7 PTE2/TPM1CH0, 8 PTE3/TPM1CH1, 9 VSS, 10 IRQ/TPMCLK, 11 PTE4/MISO1, 12 PTE5/MOSI1, 13 PTE6/SPSCK1, 14 PTE7/~{SS1}, 15 PTG1/KBIP1, 16 VDD (power), 17 PTB0/MISO2/ADP0, 18 PTB1/MOSI2/ADP1, 19 PTB2/SPSCK2/ADP2, 20 PTB3/~{SS2}/ADP3, 21 PTB4/KBIP4/ADP4, 22 PTB5/KBIP5/ADP5, 23 PTD0/ADP8/ACMP+, 24 PTD1/ADP9/ACMP-, 25 PTD2/KBIP2/ACMPO, 26 PTG2/KBIP6, 27 PTC0/SCL, 28 PTC1/SDA, 29 PTC5/RxD2, 30 PTC3/TxD2

## POTENCIOMETRO
designator R?
footprint POTENCIOMETRO
pins: 1, 2, 3

## PRESET
designator R?
footprint PRESET H
footprint PRESET V
pins: 1, 2, 3

## PUENTE
designator D?
footprint PUENTE - W10M
pins: 1 V+, 2 AC, 3 V-, 4 AC

## R-PACK 4+1
designator RP?
footprint RESNET4+1
pins: 1, 2, 3, 4, 5

## R-PACK 8+1
designator RP?
footprint RESNET8+1
pins: 1, 2, 3, 4, 5, 6, 7, 8, 9

## RELE DOBLE INVERSOR
designator RY?
footprint RELE DIP16
pins: 1 B1, 4 C2, 6 NC2, 8 NA2, 9 NA1, 11 NC1, 13 C1, 16 B2

## RELE SIMPLE
designator *
footprint RELE SERIE 964
footprint RELE SERIE 943
pins: B1, B2, C1, NA1, NC1

## RES
designator R?
footprint 0805 (Chip Resistor, 2-Leads, Body 0,8"x0,5" - 2,0x1,3mm, IPC High Density)
footprint RES400
footprint RES100
footprint RES300
footprint 1206 (Pasivo 1206)
footprint RES500
footprint RES600
footprint RES1200
pins: 1, 2

## RJ45
designator J?
footprint RJ45
pins: 1, 2, 3, 4, 5, 6, 7, 8

## RWS-XXX
designator U?
Receiver Module
footprint RWS-XXX (Footprint not found)
pins: 1 GND, 2 Digital OUT, 3 Linear OUT, 4 VCC, 5 VCC, 6 GND, 7 GND, 8 ANT

## TACT SWITCH
designator S?
footprint TACTSWITCH
pins: 1, 2, 3, 4

## TCST2103
designator U?
Transmissive Optical Sensor with Phototransistor Output; DS: http://www.vishay.com/docs/81147/tcst2103.pdf
footprint TCST2103
pins: 1 E, 2 +, 3 D, 4 +

## TDA7000
designator U?
FM radio circuit
footprint DIP18 (Footprint not found)
pins: 1 MUTE (power), 2 AUDIO (power), 4 LOOP_FILTER (power), 5 +VP, 6 OSC, 7 FI1 (power), 8 FI2, 9 FI3 (power), 10 FI4 (power), 11 FI5 (power), 12 FI6 (power), 13 RF_IN1, 14    RF_IN2, 15 LIMITER (power), 16 GND, 17 DEMODULATOR (power), 18 CORRELATOR (power)

## TOGGLE_SWITCH
designator LL?
Pulsador con reteción
footprint TOOGLE SWITCH SIMPLE
pins: 1 NA, 2 C, 3 NC

## TP
designator TP?
footprint TPSMD
footprint TPTH
pins: 1

## TRANSISTOR NPN
designator T?
footprint SOT23
footprint TO92
footprint TO-220 H
footprint TO-220 V
footprint TO-220 H - DISIPADOR
footprint TO-126 V
footprint TO3
pins: 1 B, 2 C, 3 E

## TRANSISTOR PNP
designator T?
footprint SOT23
footprint TO92
footprint TO-220 H
footprint TO-220 V
footprint TO-220 H - DISIPADOR
footprint TO-126 V
pins: 1 B, 2 C, 3 E

## TRIAC
designator Q?
footprint TO-220 H
footprint TO-220 V
pins: 1 M1, 2 M2, 3 G

## TWS-XXX
designator U?
Transmitter Module
footprint TWS-XXX (Footprint not found)
pins: 1 GND, 2 DATA IN, 3 VCC, 4 ANT